# EAGLE library part EDGE50 (library Custom)
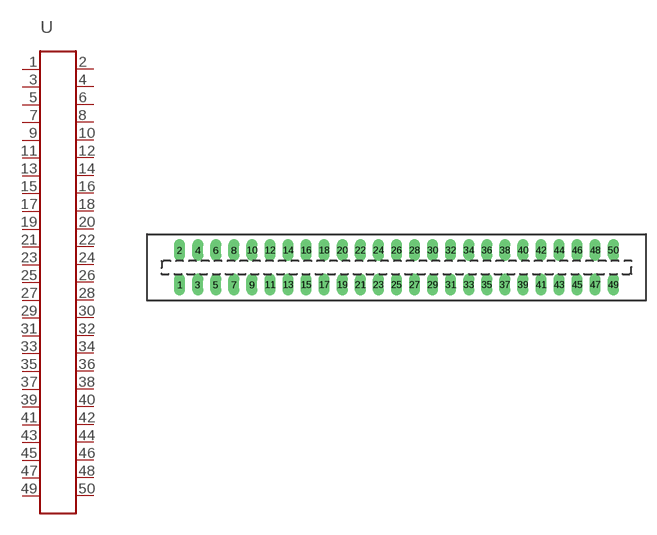
[diagram p6: symbol with the pads of EDGE50F; footprint EDGE50F]

Designator prefix -

## EDGE50F  [EDGE50F]
1  1
2  2
3  3
4  4
5  5
6  6
7  7
8  8
9  9
10  10
11  11
12  12
13  13
14  14
15  15
16  16
17  17
18  18
19  19
20  20
21  21
22  22
23  23
24  24
25  25
26  26
27  27
28  28
29  29
30  30
31  31
32  32
33  33
34  34
35  35
36  36
37  37
38  38
39  39
40  40
41  41
42  42
43  43
44  44
45  45
46  46
47  47
48  48
49  49
50  50

## Footprint EDGE50F (pad centres in mm)
drill 1.016 long: 1 -30.48,-2.426; 2 -30.48,2.426; 3 -27.94,-2.426; 4 -27.94,2.426; 5 -25.4,-2.426; 6 -25.4,2.426; 7 -22.86,-2.426; 8 -22.86,2.426; 9 -20.32,-2.426; 10 -20.32,2.426; 11 -17.78,-2.426; 12 -17.78,2.426; 13 -15.24,-2.426; 14 -15.24,2.426; 15 -12.7,-2.426; 16 -12.7,2.426; 17 -10.16,-2.426; 18 -10.16,2.426; 19 -7.62,-2.426; 20 -7.62,2.426; 21 -5.08,-2.426; 22 -5.08,2.426; 23 -2.54,-2.426; 24 -2.54,2.426; 25 0,-2.426; 26 0,2.426; 27 2.54,-2.426; 28 2.54,2.426; 29 5.08,-2.426; 30 5.08,2.426; 31 7.62,-2.426; 32 7.62,2.426; 33 10.16,-2.426; 34 10.16,2.426; 35 12.7,-2.426; 36 12.7,2.426; 37 15.24,-2.426; 38 15.24,2.426; 39 17.78,-2.426; 40 17.78,2.426; 41 20.32,-2.426; 42 20.32,2.426; 43 22.86,-2.426; 44 22.86,2.426; 45 25.4,-2.426; 46 25.4,2.426; 47 27.94,-2.426; 48 27.94,2.426; 49 30.48,-2.426; 50 30.48,2.426